# EAGLE library part MAX4634 (library daqcs)
Fast, Low-Voltage, 4Ω, 4-Channel CMOS Analog Multiplexer
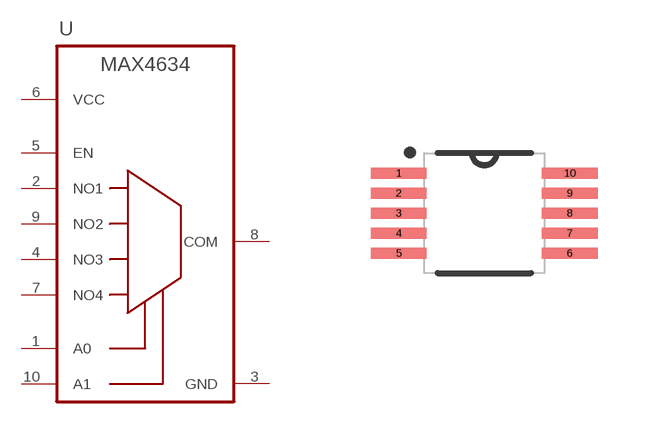
[diagram p14: symbol with the pads of SOIC050P140X0280-10N; footprint SOIC050P140X0280-10N]

Designator prefix U

## MAX4634_EUB_SOIC10 (MANUFACTURER: Maxim; MANUFACTURER_PN: MAX4634EUB+; ON_RESISTANCE: 4 OHM; VALUE: MAX4634; VENDOR: Digikey; VENDOR_PN: MAX4634EUB+-ND)  [SOIC050P140X0280-10N]
1  A0  in
2  NO1  in
3  GND  pwr
4  NO3  in
5  EN  in
6  VCC  pwr
7  NO4  in
8  COM  out
9  NO2  in
10  A1  in

## Footprint SOIC050P140X0280-10N (pad centres in mm)
smd 1.4 x 0.28: 1 -2.14,1; 2 -2.14,0.5; 3 -2.14,0; 4 -2.14,-0.5; 5 -2.14,-1; 6 2.14,-1; 7 2.14,-0.5; 8 2.14,0; 9 2.14,0.5; 10 2.14,1